# Altium schematic symbol library Rising Clamp System WR-TBL_7.62 mm.SchLib: 34 symbols
Pins are listed as number, name and electrical type; pins without a type are passive.

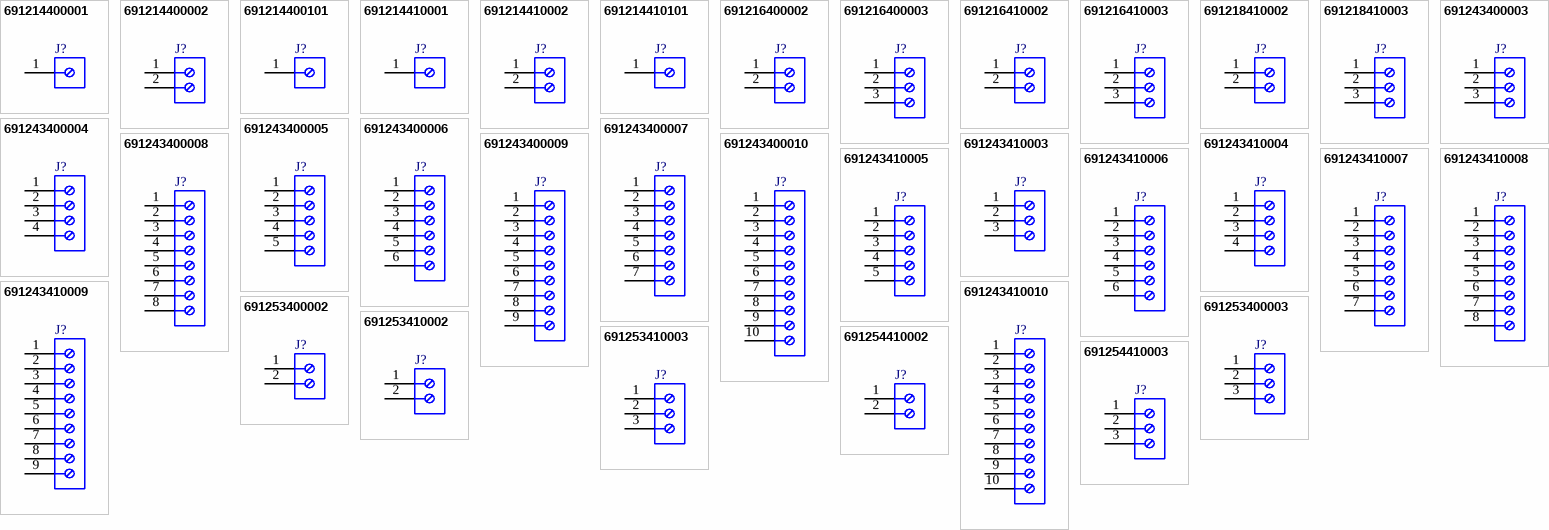
[diagram p0: symbols 691214400001 to 691254410003]

## 691214400001
designator J?
Serie 2144 - 7.62 mm Vertical Entry with Rising Cage Clamp WR-TBL, 1 pin; Part Number: 691214400001; Pin Number: 1; Pitch: 7.62 mm; ComponentLink1Description: Manufacturer; ComponentLink1URL: http://www.we-online.de; ComponentLink2Description: Datasheet; ComponentLink2URL: http://katalog.we-online.de/em/datasheet/6912144000xx.pdf; Published Date: June 2018; Publisher: Wurth Elektronik; Operating Temperature: -30 to 120 degC; Mounting Technology: THT; Packaging: Box
footprint 691214400001
pins: 1

## 691214400002
designator J?
Serie 2144 - 7.62 mm Vertical Entry with Rising Cage Clamp WR-TBL, 2 pin; Part Number: 691214400002; Pin Number: 2; Pitch: 7.62 mm; ComponentLink1Description: Manufacturer; ComponentLink1URL: http://www.we-online.de; ComponentLink2Description: Datasheet; ComponentLink2URL: http://katalog.we-online.de/em/datasheet/6912144000xx.pdf; Published Date: June 2018; Publisher: Wurth Elektronik; Operating Temperature: -30 to 120 degC; Mounting Technology: THT; Packaging: Box
footprint 691214400002
pins: 1, 2

## 691214400101
designator J?
Serie 2144 - 7.62 mm Vertical Entry with Rising Cage Clamp WR-TBL, 1 pin; Part Number: 691214400101; Pin Number: 1; Pitch: 7.62 mm; ComponentLink1Description: Manufacturer; ComponentLink1URL: http://www.we-online.de; ComponentLink2Description: Datasheet; ComponentLink2URL: http://katalog.we-online.de/em/datasheet/6912144000xx.pdf; Published Date: June 2018; Publisher: Wurth Elektronik; Operating Temperature: -30 to 120 degC; Mounting Technology: THT; Packaging: Box
footprint 691214400101
pins: 1

## 691214410001
designator J?
Serie 2144 - 7.62 mm Horizontal Entry with Rising Cage Clamp WR-TBL, 1 pin; Part Number: 691214410001; Pin Number: 1; Pitch: 7.62 mm; ComponentLink1Description: Manufacturer; ComponentLink1URL: http://www.we-online.de; ComponentLink2Description: Datasheet; ComponentLink2URL: http://katalog.we-online.de/em/datasheet/6912144100xx.pdf; Published Date: June 2018; Publisher: Wurth Elektronik; Operating Temperature: -30 to 120 degC; Mounting Technology: THT; Packaging: Box
footprint 691214410001
pins: 1

## 691214410002
designator J?
Serie 2144 - 7.62 mm Horizontal Entry with Rising Cage Clamp WR-TBL, 2 pin; Part Number: 691214410002; Pin Number: 2; Pitch: 7.62 mm; ComponentLink1Description: Manufacturer; ComponentLink1URL: http://www.we-online.de; ComponentLink2Description: Datasheet; ComponentLink2URL: http://katalog.we-online.de/em/datasheet/6912144100xx.pdf; Published Date: June 2018; Publisher: Wurth Elektronik; Operating Temperature: -30 to 120 degC; Mounting Technology: THT; Packaging: Box
footprint 691214410002
pins: 1, 2

## 691214410101
designator J?
Serie 2144 - 7.62 mm Horizontal Entry with Rising Cage Clamp WR-TBL, 1 pin; Part Number: 691214410101; Pin Number: 1; Pitch: 7.62 mm; ComponentLink1Description: Manufacturer; ComponentLink1URL: http://www.we-online.de; ComponentLink2Description: Datasheet; ComponentLink2URL: http://katalog.we-online.de/em/datasheet/6912144100xx.pdf; Published Date: June 2018; Publisher: Wurth Elektronik; Operating Temperature: -30 to 120 degC; Mounting Technology: THT; Packaging: Box
footprint 691214410101
pins: 1

## 691216400002
designator J?
Serie 2164 - 7.62 mm Vertical Entry with Rising Cage Clamp WR-TBL, 2 pin; Part Number: 691216400002; Pin Number: 2; Pitch: 7.62 mm; ComponentLink1Description: Manufacturer; ComponentLink1URL: http://www.we-online.de; ComponentLink2Description: Datasheet; ComponentLink2URL: http://katalog.we-online.de/em/datasheet/691216400002.pdf; Published Date: June 2018; Publisher: Wurth Elektronik; Operating Temperature: -30 to 120 degC; Mounting Technology: THT; Packaging: Box
footprint 691216400002
pins: 1, 2

## 691216400003
designator J?
Serie 2164 - 7.62 mm Vertical Entry with Rising Cage Clamp WR-TBL, 3 pin; Part Number: 691216400003; Pin Number: 3; Pitch: 7.62 mm; ComponentLink1Description: Manufacturer; ComponentLink1URL: http://www.we-online.de; ComponentLink2Description: Datasheet; ComponentLink2URL: http://katalog.we-online.de/em/datasheet/691216400003.pdf; Published Date: June 2018; Publisher: Wurth Elektronik; Operating Temperature: -30 to 120 degC; Mounting Technology: THT; Packaging: Box
footprint 691216400003
pins: 1, 2, 3

## 691216410002
designator J?
Serie 2164 - 7.62 mm Horizontal Entry with Rising Cage Clamp WR-TBL, 2 pin; Part Number: 691216410002; Pin Number: 2; Pitch: 7.62 mm; ComponentLink1Description: Manufacturer; ComponentLink1URL: http://www.we-online.de; ComponentLink2Description: Datasheet; ComponentLink2URL: http://katalog.we-online.de/em/datasheet/691216410002.pdf; Published Date: June 2018; Publisher: Wurth Elektronik; Operating Temperature: -30 to 120 degC; Mounting Technology: THT; Packaging: Box
footprint 691216410002
pins: 1, 2

## 691216410003
designator J?
Serie 2164 - 7.62 mm Horizontal Entry with Rising Cage Clamp WR-TBL, 3 pin; Part Number: 691216410003; Pin Number: 3; Pitch: 7.62 mm; ComponentLink1Description: Manufacturer; ComponentLink1URL: http://www.we-online.de; ComponentLink2Description: Datasheet; ComponentLink2URL: http://katalog.we-online.de/em/datasheet/691216410003.pdf; Published Date: June 2018; Publisher: Wurth Elektronik; Operating Temperature: -30 to 120 degC; Mounting Technology: THT; Packaging: Box
footprint 691216410003
pins: 1, 2, 3

## 691218410002
designator J?
Serie 2184 - 7.62 mm Horizontal Entry Modular with Rising Cage Clamp WR-TBL, 2 pin; Part Number: 691218410002; Pin Number: 2; Pitch: 7.62 mm; ComponentLink1Description: Manufacturer; ComponentLink1URL: http://www.we-online.de; ComponentLink2Description: Datasheet; ComponentLink2URL: http://katalog.we-online.de/em/datasheet/6912184100xx.pdf; Published Date: June 2018; Publisher: Wurth Elektronik; Operating Temperature: -40 to 105 degC; Mounting Technology: THT; Packaging: Box
footprint 691218410002
pins: 1, 2

## 691218410003
designator J?
Serie 2184 - 7.62 mm Horizontal Entry Modular with Rising Cage Clamp WR-TBL, 3 pin; Part Number: 691218410003; Pin Number: 3; Pitch: 7.62 mm; ComponentLink1Description: Manufacturer; ComponentLink1URL: http://www.we-online.de; ComponentLink2Description: Datasheet; ComponentLink2URL: http://katalog.we-online.de/em/datasheet/6912184100xx.pdf; Published Date: June 2018; Publisher: Wurth Elektronik; Operating Temperature: -40 to 105 degC; Mounting Technology: THT; Packaging: Box
footprint 691218410003
pins: 1, 2, 3

## 691243400003
designator J?
Serie 2434 - 7.62 mm Vertical Entry Modular with Rising Cage Clamp WR-TBL, 3 pin; Part Number: 691243400003; Pin Number: 3; Pitch: 7.62 mm; ComponentLink1Description: Manufacturer; ComponentLink1URL: http://www.we-online.de; ComponentLink2Description: Datasheet; ComponentLink2URL: http://katalog.we-online.de/em/datasheet/6912434000xx.pdf; Published Date: June 2018; Publisher: Wurth Elektronik; Operating Temperature: -30 to 120 degC; Mounting Technology: THT; Packaging: Box
footprint 691243400003
pins: 1, 2, 3

## 691243400004
designator J?
Serie 2434 - 7.62 mm Vertical Entry Modular with Rising Cage Clamp WR-TBL, 4 pin; Part Number: 691243400004; Pin Number: 4; Pitch: 7.62 mm; ComponentLink1Description: Manufacturer; ComponentLink1URL: http://www.we-online.de; ComponentLink2Description: Datasheet; ComponentLink2URL: http://katalog.we-online.de/em/datasheet/6912434000xx.pdf; Published Date: June 2018; Publisher: Wurth Elektronik; Operating Temperature: -30 to 120 degC; Mounting Technology: THT; Packaging: Box
footprint 691243400004
pins: 1, 2, 3, 4

## 691243400005
designator J?
Serie 2434 - 7.62 mm Vertical Entry Modular with Rising Cage Clamp WR-TBL, 5 pin; Part Number: 691243400005; Pin Number: 5; Pitch: 7.62 mm; ComponentLink1Description: Manufacturer; ComponentLink1URL: http://www.we-online.de; ComponentLink2Description: Datasheet; ComponentLink2URL: http://katalog.we-online.de/em/datasheet/6912434000xx.pdf; Published Date: June 2018; Publisher: Wurth Elektronik; Operating Temperature: -30 to 120 degC; Mounting Technology: THT; Packaging: Box
footprint 691243400005
pins: 1, 2, 3, 4, 5

## 691243400006
designator J?
Serie 2434 - 7.62 mm Vertical Entry Modular with Rising Cage Clamp WR-TBL, 6 pin; Part Number: 691243400006; Pin Number: 6; Pitch: 7.62 mm; ComponentLink1Description: Manufacturer; ComponentLink1URL: http://www.we-online.de; ComponentLink2Description: Datasheet; ComponentLink2URL: http://katalog.we-online.de/em/datasheet/6912434000xx.pdf; Published Date: June 2018; Publisher: Wurth Elektronik; Operating Temperature: -30 to 120 degC; Mounting Technology: THT; Packaging: Box
footprint 691243400006
pins: 1, 2, 3, 4, 5, 6

## 691243400007
designator J?
Serie 2434 - 7.62 mm Vertical Entry Modular with Rising Cage Clamp WR-TBL, 7 pin; Part Number: 691243400007; Pin Number: 7; Pitch: 7.62 mm; ComponentLink1Description: Manufacturer; ComponentLink1URL: http://www.we-online.de; ComponentLink2Description: Datasheet; ComponentLink2URL: http://katalog.we-online.de/em/datasheet/6912434000xx.pdf; Published Date: June 2018; Publisher: Wurth Elektronik; Operating Temperature: -30 to 120 degC; Mounting Technology: THT; Packaging: Box
footprint 691243400007
pins: 1, 2, 3, 4, 5, 6, 7

## 691243400008
designator J?
Serie 2434 - 7.62 mm Vertical Entry Modular with Rising Cage Clamp WR-TBL, 8 pin; Part Number: 691243400008; Pin Number: 8; Pitch: 7.62 mm; ComponentLink1Description: Manufacturer; ComponentLink1URL: http://www.we-online.de; ComponentLink2Description: Datasheet; ComponentLink2URL: http://katalog.we-online.de/em/datasheet/6912434000xx.pdf; Published Date: June 2018; Publisher: Wurth Elektronik; Operating Temperature: -30 to 120 degC; Mounting Technology: THT; Packaging: Box
footprint 691243400008
pins: 1, 2, 3, 4, 5, 6, 7, 8

## 691243400009
designator J?
Serie 2434 - 7.62 mm Vertical Entry Modular with Rising Cage Clamp WR-TBL, 9 pin; Part Number: 691243400009; Pin Number: 9; Pitch: 7.62 mm; ComponentLink1Description: Manufacturer; ComponentLink1URL: http://www.we-online.de; ComponentLink2Description: Datasheet; ComponentLink2URL: http://katalog.we-online.de/em/datasheet/6912434000xx.pdf; Published Date: June 2018; Publisher: Wurth Elektronik; Operating Temperature: -30 to 120 degC; Mounting Technology: THT; Packaging: Box
footprint 691243400009
pins: 1, 2, 3, 4, 5, 6, 7, 8, 9

## 691243400010
designator J?
Serie 2434 - 7.62 mm Vertical Entry Modular with Rising Cage Clamp WR-TBL, 10 pin; Part Number: 691243400010; Pin Number: 10; Pitch: 7.62 mm; ComponentLink1Description: Manufacturer; ComponentLink1URL: http://www.we-online.de; ComponentLink2Description: Datasheet; ComponentLink2URL: http://katalog.we-online.de/em/datasheet/6912434000xx.pdf; Published Date: June 2018; Publisher: Wurth Elektronik; Operating Temperature: -30 to 120 degC; Mounting Technology: THT; Packaging: Box
footprint 691243400010
pins: 1, 2, 3, 4, 5, 6, 7, 8, 9, 10

## 691243410003
designator J?
Serie 2434 - 7.62 mm Horizontal Entry Modular with Rising Cage Clamp WR-TBL, 3 pin; Part Number: 691243410003; Pin Number: 3; Pitch: 7.62 mm; ComponentLink1Description: Manufacturer; ComponentLink1URL: http://www.we-online.de; ComponentLink2Description: Datasheet; ComponentLink2URL: http://katalog.we-online.de/em/datasheet/6912434100xx.pdf; Published Date: June 2018; Publisher: Wurth Elektronik; Operating Temperature: -30 to 120 degC; Mounting Technology: THT; Packaging: Box
footprint 691243410003
pins: 1, 2, 3

## 691243410004
designator J?
Serie 2434 - 7.62 mm Horizontal Entry Modular with Rising Cage Clamp WR-TBL, 4 pin; Part Number: 691243410004; Pin Number: 4; Pitch: 7.62 mm; ComponentLink1Description: Manufacturer; ComponentLink1URL: http://www.we-online.de; ComponentLink2Description: Datasheet; ComponentLink2URL: http://katalog.we-online.de/em/datasheet/6912434100xx.pdf; Published Date: June 2018; Publisher: Wurth Elektronik; Operating Temperature: -30 to 120 degC; Mounting Technology: THT; Packaging: Box
footprint 691243410004
pins: 1, 2, 3, 4

## 691243410005
designator J?
Serie 2434 - 7.62 mm Horizontal Entry Modular with Rising Cage Clamp WR-TBL, 5 pin; Part Number: 691243410005; Pin Number: 5; Pitch: 7.62 mm; ComponentLink1Description: Manufacturer; ComponentLink1URL: http://www.we-online.de; ComponentLink2Description: Datasheet; ComponentLink2URL: http://katalog.we-online.de/em/datasheet/6912434100xx.pdf; Published Date: June 2018; Publisher: Wurth Elektronik; Operating Temperature: -30 to 120 degC; Mounting Technology: THT; Packaging: Box
footprint 691243410005
pins: 1, 2, 3, 4, 5

## 691243410006
designator J?
Serie 2434 - 7.62 mm Horizontal Entry Modular with Rising Cage Clamp WR-TBL, 6 pin; Part Number: 691243410006; Pin Number: 6; Pitch: 7.62 mm; ComponentLink1Description: Manufacturer; ComponentLink1URL: http://www.we-online.de; ComponentLink2Description: Datasheet; ComponentLink2URL: http://katalog.we-online.de/em/datasheet/6912434100xx.pdf; Published Date: June 2018; Publisher: Wurth Elektronik; Operating Temperature: -30 to 120 degC; Mounting Technology: THT; Packaging: Box
footprint 691243410006
pins: 1, 2, 3, 4, 5, 6

## 691243410007
designator J?
Serie 2434 - 7.62 mm Horizontal Entry Modular with Rising Cage Clamp WR-TBL, 7 pin; Part Number: 691243410007; Pin Number: 7; Pitch: 7.62 mm; ComponentLink1Description: Manufacturer; ComponentLink1URL: http://www.we-online.de; ComponentLink2Description: Datasheet; ComponentLink2URL: http://katalog.we-online.de/em/datasheet/6912434100xx.pdf; Published Date: June 2018; Publisher: Wurth Elektronik; Operating Temperature: -30 to 120 degC; Mounting Technology: THT; Packaging: Box
footprint 691243410007
pins: 1, 2, 3, 4, 5, 6, 7

## 691243410008
designator J?
Serie 2434 - 7.62 mm Horizontal Entry Modular with Rising Cage Clamp WR-TBL, 8 pin; Part Number: 691243410008; Pin Number: 8; Pitch: 7.62 mm; ComponentLink1Description: Manufacturer; ComponentLink1URL: http://www.we-online.de; ComponentLink2Description: Datasheet; ComponentLink2URL: http://katalog.we-online.de/em/datasheet/6912434100xx.pdf; Published Date: June 2018; Publisher: Wurth Elektronik; Operating Temperature: -30 to 120 degC; Mounting Technology: THT; Packaging: Box
footprint 691243410008
pins: 1, 2, 3, 4, 5, 6, 7, 8

## 691243410009
designator J?
Serie 2434 - 7.62 mm Horizontal Entry Modular with Rising Cage Clamp WR-TBL, 9 pin; Part Number: 691243410009; Pin Number: 9; Pitch: 7.62 mm; ComponentLink1Description: Manufacturer; ComponentLink1URL: http://www.we-online.de; ComponentLink2Description: Datasheet; ComponentLink2URL: http://katalog.we-online.de/em/datasheet/6912434100xx.pdf; Published Date: June 2018; Publisher: Wurth Elektronik; Operating Temperature: -30 to 120 degC; Mounting Technology: THT; Packaging: Box
footprint 691243410009
pins: 1, 2, 3, 4, 5, 6, 7, 8, 9

## 691243410010
designator J?
Serie 2434 - 7.62 mm Horizontal Entry Modular with Rising Cage Clamp WR-TBL, 10 pin; Part Number: 691243410010; Pin Number: 10; Pitch: 7.62 mm; ComponentLink1Description: Manufacturer; ComponentLink1URL: http://www.we-online.de; ComponentLink2Description: Datasheet; ComponentLink2URL: http://katalog.we-online.de/em/datasheet/6912434100xx.pdf; Published Date: June 2018; Publisher: Wurth Elektronik; Operating Temperature: -30 to 120 degC; Mounting Technology: THT; Packaging: Box
footprint 691243410010
pins: 1, 2, 3, 4, 5, 6, 7, 8, 9, 10

## 691253400002
designator J?
Serie 2534 - 7.62 mm Vertical Entry Modular with Rising Cage Clamp WR-TBL, 2 pin; Part Number: 691253400002; Pin Number: 2; Pitch: 7.62 mm; ComponentLink1Description: Manufacturer; ComponentLink1URL: http://www.we-online.de; ComponentLink2Description: Datasheet; ComponentLink2URL: http://katalog.we-online.de/em/datasheet/6912534000xx.pdf; Published Date: June 2018; Publisher: Wurth Elektronik; Operating Temperature: -30 to 120 degC; Mounting Technology: THT; Packaging: Box
footprint 691253400002
pins: 1, 2

## 691253400003
designator J?
Serie 2534 - 7.62 mm Vertical Entry Modular with Rising Cage Clamp WR-TBL, 3 pin; Part Number: 691253400003; Pin Number: 3; Pitch: 7.62 mm; ComponentLink1Description: Manufacturer; ComponentLink1URL: http://www.we-online.de; ComponentLink2Description: Datasheet; ComponentLink2URL: http://katalog.we-online.de/em/datasheet/6912534000xx.pdf; Published Date: June 2018; Publisher: Wurth Elektronik; Operating Temperature: -30 to 120 degC; Mounting Technology: THT; Packaging: Box
footprint 691253400003
pins: 1, 2, 3

## 691253410002
designator J?
Serie 2534 - 7.62 mm Horizontal Entry Modular with Rising Cage Clamp WR-TBL, 2 pin; Part Number: 691253410002; Pin Number: 2; Pitch: 7.62 mm; ComponentLink1Description: Manufacturer; ComponentLink1URL: http://www.we-online.de; ComponentLink2Description: Datasheet; ComponentLink2URL: http://katalog.we-online.de/em/datasheet/6912534100XX.pdf; Published Date: June 2018; Publisher: Wurth Elektronik; Operating Temperature: -30 to 120 degC; Mounting Technology: THT; Packaging: Box
footprint 691253410002
pins: 1, 2

## 691253410003
designator J?
Serie 2534 - 7.62 mm Horizontal Entry Modular with Rising Cage Clamp WR-TBL, 3 pin; Part Number: 691253410003; Pin Number: 3; Pitch: 7.62 mm; ComponentLink1Description: Manufacturer; ComponentLink1URL: http://www.we-online.de; ComponentLink2Description: Datasheet; ComponentLink2URL: http://katalog.we-online.de/em/datasheet/6912534100XX.pdf; Published Date: June 2018; Publisher: Wurth Elektronik; Operating Temperature: -30 to 120 degC; Mounting Technology: THT; Packaging: Box
footprint 691253410003
pins: 1, 2, 3

## 691254410002
designator J?
Serie 2544 - 7.62 mm Horizontal Entry Dual Pin with Rising Cage Clamp WR-TBL, 2 pin; Part Number: 691254410002; Pin Number: 2; Pitch: 7.62 mm; ComponentLink1Description: Manufacturer; ComponentLink1URL: http://www.we-online.de; ComponentLink2Description: Datasheet; ComponentLink2URL: http://katalog.we-online.de/em/datasheet/6912544100xx.pdf; Published Date: June 2018; Publisher: Wurth Elektronik; Operating Temperature: -30 to 120 degC; Mounting Technology: THT; Packaging: Box
footprint 691254410002
pins: 1, 2

## 691254410003
designator J?
Serie 2544 - 7.62 mm Horizontal Entry Dual Pin with Rising Cage Clamp WR-TBL, 3 pin; Part Number: 691254410003; Pin Number: 3; Pitch: 7.62 mm; ComponentLink1Description: Manufacturer; ComponentLink1URL: http://www.we-online.de; ComponentLink2Description: Datasheet; ComponentLink2URL: http://katalog.we-online.de/em/datasheet/6912544100xx.pdf; Published Date: June 2018; Publisher: Wurth Elektronik; Operating Temperature: -30 to 120 degC; Mounting Technology: THT; Packaging: Box
footprint 691254410003
pins: 1, 2, 3